# Altium footprint library Footprints_lib.PcbLib: 10 footprints
Each footprint in its own frame and in the unit in brackets; x right, y up, seen from the top. Pads: shape width x height; smd on the part's side, far side on the other; paste and mask are expansions set on the pad; w line width, h text height; cw(c..) or ccw(c..) is an arc to the next point about the centre after c.
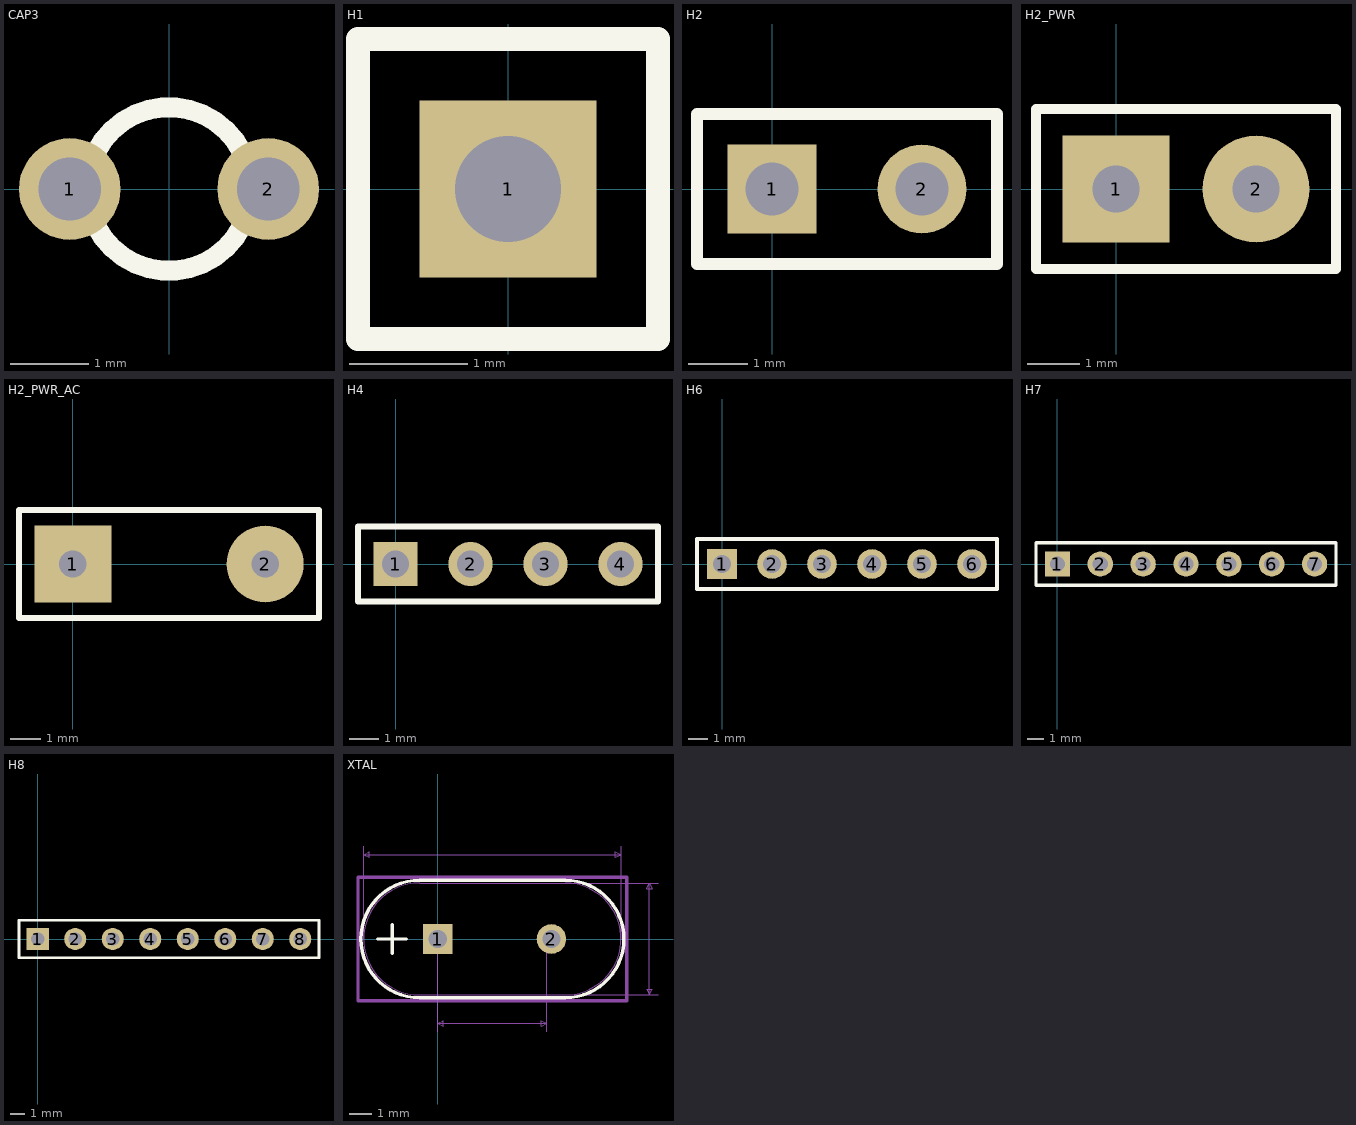
[diagram p0: the footprints below, top view; thin cyan lines are the x and y axes]

## CAP3 [mm] "THD, 2-Leads"
height 12
pads (2):
  round 1.3 hole 0.8: 1(-1.27,0) 2(1.27,0)
Top Overlay:
  lines w0.254: -0.937,-0.468 ccw(c0,0) 0.937,-0.468 ; -0.937,0.468 cw(c0,0) 0.937,0.468
3D body "10pF Ceramic Disc 2.SLDPRT": height 6.16, standoff -7.87, extent -2.344,-1.25 2.345,1.25

## H1 [mm] "Connector; Header; 1 Position"
pads (1):
  rect 1.5x1.5 hole 0.9: 1(0,0)
Top Overlay:
  lines w0.2: -1.27,-1.27 -1.27,1.27 1.27,1.27 1.27,-1.27 -1.27,-1.27
3D body "HDR1X1.STEP": height 9.2, standoff -3.5, extent -1.27,-1.27 1.27,1.27

## H2 [mm] "Connector; Header; 2 Position"
pads (2):
  rect 1.5x1.5 hole 0.9: 1(0,0)
  round 1.5 hole 0.9: 2(2.54,0)
Top Overlay:
  lines w0.2: -1.27,-1.27 -1.27,1.27 3.81,1.27 3.81,-1.27 -1.27,-1.27
3D body "HDR1X2.STEP": height 9.2, standoff -3.5, extent -1.27,-1.27 3.81,1.27

## H2_PWR [mil] "Connector; Header; 2 Position"
pads (2):
  rect 80x80 hole 35.43: 1(0,0)
  round 80 hole 35.43: 2(105,0)
Top Overlay:
  lines w7.87: -60,-60 -60,60 165,60 165,-60 -60,-60
3D body "JST 2pin.stp": height 269.5, standoff -136, extent -92.5,-135.5 200,90

## H2_PWR_AC [mm] "Connector; Header; 2 Position"
pads (2):
  rect 2.54x2.54 hole 0.9: 1(0,0)
  round 2.54 hole 0.9: 2(6.35,0)
Top Overlay:
  lines w0.2: -1.778,-1.778 8.128,-1.778 8.128,1.778 -1.778,1.778 -1.778,-1.778

## H4 [mm] "Connector; Header; 4 Position"
pads (4):
  rect 1.5x1.5 hole 0.9: 1(0,0)
  round 1.5 hole 0.9: 2(2.54,0) 3(5.08,0) 4(7.62,0)
Top Overlay:
  lines w0.2: -1.27,-1.27 8.89,-1.27 8.89,1.27 -1.27,1.27 -1.27,-1.27
3D body "HDR1X4.STEP": height 9.2, standoff -3.5, extent -1.27,-1.27 8.89,1.27

## H6 [mm] "Connector; Header; 6 Position"
pads (6):
  rect 1.5x1.5 hole 0.9: 1(0,0)
  round 1.5 hole 0.9: 2(2.54,0) 3(5.08,0) 4(7.62,0) 5(10.16,0) 6(12.7,0)
Top Overlay:
  lines w0.2: -1.27,-1.27 13.97,-1.27 13.97,1.27 -1.27,1.27 -1.27,-1.27
3D body "HDR1X6.STEP": height 9.2, standoff -3.5, extent -1.27,-1.27 13.97,1.27

## H7 [mm] "Connector; Header; 7 Position"
pads (7):
  rect 1.5x1.5 hole 0.9: 1(0,0)
  round 1.5 hole 0.9: 2(2.54,0) 3(5.08,0) 4(7.62,0) 5(10.16,0) 6(12.7,0) 7(15.24,0)
Top Overlay:
  lines w0.2: -1.27,-1.27 16.51,-1.27 16.51,1.27 -1.27,1.27 -1.27,-1.27
3D body "HDR1X7.STEP": height 9.2, standoff -3.5, extent -1.27,-1.27 16.51,1.27

## H8 [mm] "Connector; Header; 8 Position"
pads (8):
  rect 1.5x1.5 hole 0.9: 1(0,0)
  round 1.5 hole 0.9: 2(2.54,0) 3(5.08,0) 4(7.62,0) 5(10.16,0) 6(12.7,0) 7(15.24,0) 8(17.78,0)
Top Overlay:
  lines w0.2: -1.27,-1.27 -1.27,1.27 19.05,1.27 19.05,-1.27 -1.27,-1.27
3D body "HDR1X8.STEP": height 9.2, standoff -3.5, extent -1.27,-1.27 19.05,1.27

## XTAL [mil]
pads (2):
  rect 52x52 hole 32 mask+0: 1(0,0)
  round 52 hole 32 mask+0: 2(200,0)
Top Overlay:
  lines w6: -105.44,0 -55.44,0 ; -80.44,-25 -80.44,25 ; -31.94,-103.5 cw(c-31.94,0) -31.94,103.5 224.06,103.5 cw(c224.06,0) 327.56,0 cw(c224.06,0) 224.06,-103.5 -31.94,-103.5
Mechanical 7:
  lines w1: -130.44,0 -130.44,163.5 ; 0,-163.5 0,0 ; 192.13,-163.5 192.13,0 ; 224.06,-98.5 387.56,-98.5 ; 224.06,98.5 387.56,98.5 ; 322.56,0 322.56,163.5 ; -130.44,148.5 -120.44,143.5 -120.44,153.5 -130.44,148.5 ; -130.44,148.5 322.56,148.5 ; 0,-148.5 10,-153.5 10,-143.5 0,-148.5 ; 0,-148.5 192.13,-148.5 ; 192.13,-148.5 182.13,-153.5 182.13,-143.5 192.13,-148.5 ; 322.56,148.5 312.56,143.5 312.56,153.5 322.56,148.5 ; 372.56,-98.5 377.56,-88.5 367.56,-88.5 372.56,-98.5 ; 372.56,-98.5 372.56,98.5 ; 372.56,98.5 377.56,88.5 367.56,88.5 372.56,98.5
  text "0.453in/11.506mm" at -3.94,168.5 h25
  text "200mil" at 45,-190 h25
  text "0.197in/5.004mm" at 392.56,-12.5 h25
  text "Alt 2 Pad Style: OX90Y60D30P" at -253.94,-523.5 h50
  text "Alt 1 Pad Style: OX60Y90D30P" at -253.94,-448.5 h50
  text "Default Pad Style: EX52Y52D32P" at -278.94,-373.5 h50
  text "Pin 1 Pad Style: SX52Y52D32P" at -253.94,-298.5 h50
Mechanical 13:
  lines w0: -31.94,-98.5 cw(c-31.94,0) -31.94,98.5 ; 224.06,-98.5 ccw(c224.06,0) 224.06,98.5
  lines w1: -105.44,0 -55.44,0 ; -80.44,-25 -80.44,25 ; -31.94,-98.5 224.06,-98.5 ; -31.94,98.5 224.06,98.5
Mechanical 15:
  lines w6: -140.44,-108.5 332.56,-108.5 332.56,108.5 -140.44,108.5 -140.44,-108.5
3D body: height 10, standoff 0, extent 0,0 10,10